# EAGLE library part ＩS-2235-2 (library !switch)
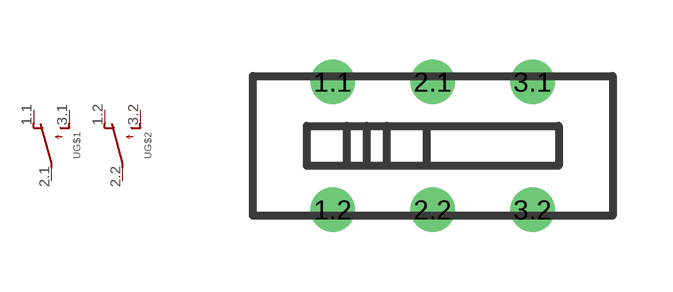
[diagram p1: symbol with the pads of ＩS-2235; footprint ＩS-2235]

Designator prefix -; gates G$1=ON-MOM G$2=ON-MOM

## ＩS-2235-2  [ＩS-2235]
1.1  G$1:O  pas
1.2  G$2:O  pas
2.1  G$1:P  pas
2.2  G$2:P  pas
3.1  G$1:S  pas
3.2  G$2:S  pas

## Footprint ＩS-2235 (pad centres in mm)
drill 0.6: 1.1 -2.5,1.6; 1.2 -2.5,-1.6; 2.1 0,1.6; 2.2 0,-1.6; 3.1 2.5,1.6; 3.2 2.5,-1.6